# Altium footprint library Diode.PcbLib: 2 footprints
Each footprint in its own frame and in the unit in brackets; x right, y up, seen from the top. Pads: shape width x height; smd on the part's side, far side on the other; paste and mask are expansions set on the pad; w line width, h text height; cw(c..) or ccw(c..) is an arc to the next point about the centre after c.
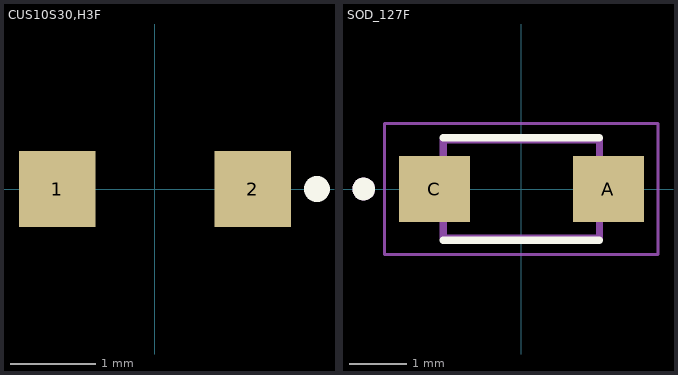
[diagram p0: the footprints below, top view; thin cyan lines are the x and y axes]

## CUS10S30,H3F [mm]
pads (2):
  rect 0.9x0.9 smd paste-1.016 mask+0.102: 1(-1.15,0) 2(1.15,0)
Top Overlay:
  circle w0.254: c1.905,0 r0.025
3D body "CUS10S30_H3F.step": height 1.16, standoff 0.01, extent -1.25,-0.625 1.25,0.625

## SOD_127F [mm]
pads (2):
  rect 1.25x1.16 smd: A(1.53,0) C(-1.53,0)
Top Overlay:
  circle w0.2: c-2.774,0 r0.1
  lines w0.127: -1.375,-0.9 1.375,-0.9 ; -1.375,0.9 1.375,0.9
Mechanical 13:
  circle w0.2: c-2.774,0 r0.1
  lines w0.127: -1.375,-0.863 1.375,-0.863 1.375,0.863 -1.375,0.863 -1.375,-0.863
Mechanical 15:
  lines w0.05: -2.405,-1.15 2.405,-1.15 2.405,1.15 -2.405,1.15 -2.405,-1.15
3D body "SOD_123F.STEP": height 1.09, standoff 0.01, extent -1.8,-0.862 1.8,0.862